# Altium footprint library XBeeLight.PcbLib: 42 footprints (part 2 of 3)
Each footprint in its own frame and in the unit in brackets; x right, y up, seen from the top. Pads: shape width x height; smd on the part's side, far side on the other; paste and mask are expansions set on the pad; w line width, h text height; cw(c..) or ccw(c..) is an arc to the next point about the centre after c.
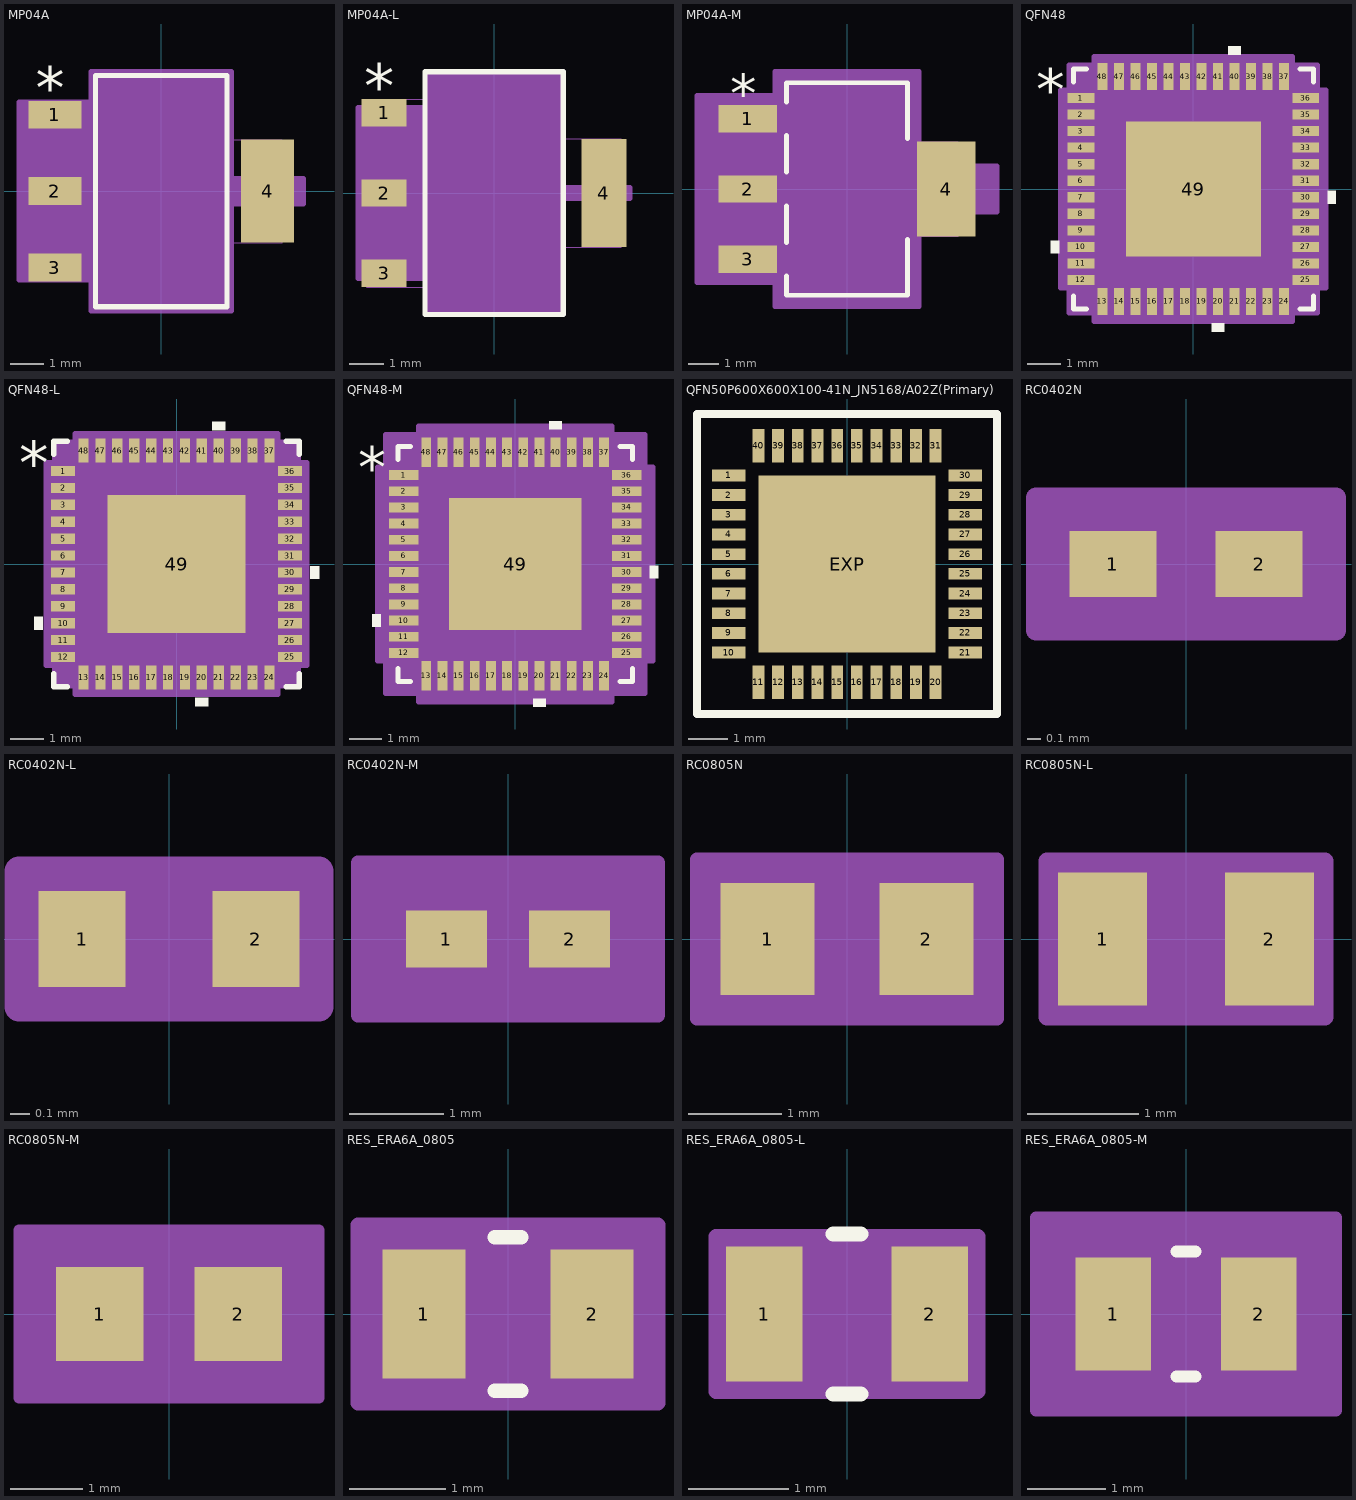
[diagram p1: the footprints below, top view; thin cyan lines are the x and y axes]

## MP04A [mil]
pads (4):
  rect 63x33 smd paste+0 mask+0: 1(-126,90.55) 2(-126,0) 3(-126,-90.55)
  rect 63x122 smd paste+0 mask+0: 4(126,0)
Top Overlay:
  lines w6: -78,-137 78,-137 78,137 -78,137 -78,-137
  text "*" at -148.5,97.05 h50
Mechanical 13:
  lines w1: -143.5,-106.05 -143.5,-75.05 -73,-75.05 -73,-106.05 -143.5,-106.05 ; -143.5,-15.5 -143.5,15.5 -73,15.5 -73,-15.5 -143.5,-15.5 ; -143.5,75.05 -143.5,106.05 -73,106.05 -73,75.05 -143.5,75.05 ; -73,-132 73,-132 73,132 -73,132 -73,-132 ; 73,-61 73,61 143.5,61 143.5,-61 73,-61
  text "*" at -75.5,77.05 h50
Mechanical 15:
  region: 83,-142 -83,-142 -83,-105.55 -168.5,-105.55 -168.5,105.55 -83,105.55 -83,142 83,142 83,15 168.5,15 168.5,-15 83,-15
  lines w6: -168.5,-105.55 -83,-105.55 -83,-142 83,-142 83,-15 168.5,-15 168.5,15 83,15 83,142 -83,142 -83,105.55 -168.5,105.55 -168.5,-105.55
3D body: height 10, standoff 0, extent 0,0 10,10

## MP04A-L [mil]
pads (4):
  rect 51x31 smd paste+0 mask+0: 1(-124,90.55) 2(-124,0) 3(-124,-90.55)
  rect 51x122 smd paste+0 mask+0: 4(124,0)
Top Overlay:
  lines w6: -78,-137 78,-137 78,137 -78,137 -78,-137
  text "*" at -146.5,96.05 h50
Mechanical 13:
  lines w1: -143.5,-106.05 -143.5,-75.05 -73,-75.05 -73,-106.05 -143.5,-106.05 ; -143.5,-15.5 -143.5,15.5 -73,15.5 -73,-15.5 -143.5,-15.5 ; -143.5,75.05 -143.5,106.05 -73,106.05 -73,75.05 -143.5,75.05 ; -73,-132 73,-132 73,132 -73,132 -73,-132 ; 73,-61 73,61 143.5,61 143.5,-61 73,-61
  text "*" at -75.5,76.05 h50
Mechanical 15:
  region: 77,-136 -77,-136 -77,-96.55 -153.5,-96.55 -153.5,96.55 -77,96.55 -77,136 77,136 77,6 153.5,6 153.5,-6 77,-6
  lines w6: -153.5,-96.55 -77,-96.55 -77,-136 77,-136 77,-6 153.5,-6 153.5,6 77,6 77,136 -77,136 -77,96.55 -153.5,96.55 -153.5,-96.55
3D body: height 10, standoff 0, extent 0,0 10,10

## MP04A-M [mil]
pads (4):
  rect 75x35 smd paste+0 mask+0: 1(-128,90.55) 2(-128,0) 3(-128,-90.55)
  rect 75x122 smd paste+0 mask+0: 4(128,0)
Top Overlay:
  lines w6: -78,-111.97 -78,-137 78,-137 78,-64.92 ; -78,-69.13 -78,-21.42 ; -78,21.42 -78,69.13 ; -78,111.97 -78,137 78,137 78,64.92
  text "*" at -150.5,98.05 h50
Mechanical 13:
  lines w1: -143.5,-106.05 -143.5,-75.05 -73,-75.05 -73,-106.05 -143.5,-106.05 ; -143.5,-15.5 -143.5,15.5 -73,15.5 -73,-15.5 -143.5,-15.5 ; -143.5,75.05 -143.5,106.05 -73,106.05 -73,75.05 -143.5,75.05 ; -73,-132 73,-132 73,132 -73,132 -73,-132 ; 73,-61 73,61 143.5,61 143.5,-61 73,-61
  text "*" at -75.5,78.05 h50
Mechanical 15:
  region: 93,-152 -93,-152 -93,-120.55 -193.5,-120.55 -193.5,120.55 -93,120.55 -93,152 93,152 93,30 193.5,30 193.5,-30 93,-30
  lines w6: -193.5,-120.55 -93,-120.55 -93,-152 93,-152 93,-30 193.5,-30 193.5,30 93,30 93,152 -93,152 -93,120.55 -193.5,120.55 -193.5,-120.55
3D body: height 10, standoff 0, extent 0,0 10,10

## QFN48 [mil]
pads (49):
  rect 32x12 smd paste+0 mask+0: 1(-134,108.27) 2(-134,88.58) 3(-134,68.9) 4(-134,49.21) 5(-134,29.53) 6(-134,9.84) 7(-134,-9.84) 8(-134,-29.53) 9(-134,-49.21) 10(-134,-68.9) 11(-134,-88.58) 12(-134,-108.27) 25(134,-108.27) 26(134,-88.58) 27(134,-68.9) 28(134,-49.21) 29(134,-29.53) 30(134,-9.84) 31(134,9.84) 32(134,29.53) 33(134,49.21) 34(134,68.9) 35(134,88.58) 36(134,108.27)
  rect 12x32 smd paste+0 mask+0: 13(-108.27,-134) 14(-88.58,-134) 15(-68.9,-134) 16(-49.21,-134) 17(-29.53,-134) 18(-9.84,-134) 19(9.84,-134) 20(29.53,-134) 21(49.21,-134) 22(68.9,-134) 23(88.58,-134) 24(108.27,-134) 37(108.27,134) 38(88.58,134) 39(68.9,134) 40(49.21,134) 41(29.53,134) 42(9.84,134) 43(-9.84,134) 44(-29.53,134) 45(-49.21,134) 46(-68.9,134) 47(-88.58,134) 48(-108.27,134)
  rect 161x161 smd paste-80 mask+0: 49(0,0)
Top Overlay:
  region: -160,-61.4 -170,-61.4 -170,-76.4 -160,-76.4
  region: 37.03,-160 22.03,-160 22.03,-170 37.03,-170
  region: 160,-2.34 170,-2.34 170,-17.34 160,-17.34
  region: 56.71,160 41.71,160 41.71,170 56.71,170
  lines w6: -143,-127.37 -143,-143 -127.37,-143 ; -143,127.37 -143,143 -127.37,143 ; 127.37,-143 143,-143 143,-127.37 ; 127.37,143 143,143 143,127.37
  text "*" at -187.5,93.11 h50
Top Paste:
  region: -30.77,76.56 -76.56,76.56 -76.56,30.77 -30.77,30.77
  region: -30.77,22.9 -76.56,22.9 -76.56,-22.9 -30.77,-22.9
  region: -30.77,-30.77 -76.56,-30.77 -76.56,-76.56 -30.77,-76.56
  region: 22.9,76.56 -22.9,76.56 -22.9,30.77 22.9,30.77
  region: 22.9,22.9 -22.9,22.9 -22.9,-22.9 22.9,-22.9
  region: 22.9,-30.77 -22.9,-30.77 -22.9,-76.56 22.9,-76.56
  region: 76.56,76.56 30.77,76.56 30.77,30.77 76.56,30.77
  region: 76.56,22.9 30.77,22.9 30.77,-22.9 76.56,-22.9
  region: 76.56,-30.77 30.77,-30.77 30.77,-76.56 76.56,-76.56
Mechanical 13:
  lines w1: -138,88 -88,138 ; -138,-138 138,-138 138,138 -138,138 -138,-138 ; -138,-114.27 -138,-102.27 -138,-114.27 ; -138,-94.58 -138,-82.58 -138,-94.58 ; -138,-74.9 -138,-62.9 -138,-74.9 ; -138,-55.21 -138,-43.21 -138,-55.21 ; -138,-35.53 -138,-23.53 -138,-35.53 ; -138,-15.84 -138,-3.84 -138,-15.84 ; -138,3.84 -138,15.84 -138,3.84 ; -138,23.53 -138,35.53 -138,23.53 ; -138,43.21 -138,55.21 -138,43.21 ; -138,62.9 -138,74.9 -138,62.9 ; -138,82.58 -138,94.58 -138,82.58 ; -138,102.27 -138,114.27 -138,102.27 ; -114.27,-138 -102.27,-138 -114.27,-138 ; -114.27,138 -102.27,138 -114.27,138 ; -94.58,-138 -82.58,-138 -94.58,-138 ; -94.58,138 -82.58,138 -94.58,138 ; -74.9,-138 -62.9,-138 -74.9,-138 ; -74.9,138 -62.9,138 -74.9,138 ; -55.21,-138 -43.21,-138 -55.21,-138 ; -55.21,138 -43.21,138 -55.21,138 ; -35.53,-138 -23.53,-138 -35.53,-138 ; -35.53,138 -23.53,138 -35.53,138 ; -15.84,-138 -3.84,-138 -15.84,-138 ; -15.84,138 -3.84,138 -15.84,138 ; 3.84,-138 15.84,-138 3.84,-138 ; 3.84,138 15.84,138 3.84,138 ; 23.53,-138 35.53,-138 23.53,-138 ; 23.53,138 35.53,138 23.53,138 ; 43.21,-138 55.21,-138 43.21,-138 ; 43.21,138 55.21,138 43.21,138 ; 62.9,-138 74.9,-138 62.9,-138 ; 62.9,138 74.9,138 62.9,138 ; 82.58,-138 94.58,-138 82.58,-138 ; 82.58,138 94.58,138 82.58,138 ; 102.27,-138 114.27,-138 102.27,-138 ; 102.27,138 114.27,138 102.27,138 ; 138,-114.27 138,-102.27 138,-114.27 ; 138,-94.58 138,-82.58 138,-94.58 ; 138,-74.9 138,-62.9 138,-74.9 ; 138,-55.21 138,-43.21 138,-55.21 ; 138,-35.53 138,-23.53 138,-35.53 ; 138,-15.84 138,-3.84 138,-15.84 ; 138,3.84 138,15.84 138,3.84 ; 138,23.53 138,35.53 138,23.53 ; 138,43.21 138,55.21 138,43.21 ; 138,62.9 138,74.9 138,62.9 ; 138,82.58 138,94.58 138,82.58 ; 138,102.27 138,114.27 138,102.27
  text "*" at -130.5,93.11 h50
Mechanical 15:
  region: -118.11,-148 -148,-148 -148,-118.11 -158,-118.11 -158,118.11 -148,118.11 -148,148 -118.11,148 -118.11,158 118.11,158 118.11,148 148,148 148,118.11 158,118.11 158,-118.11 148,-118.11 148,-148 118.11,-148 118.11,-158 -118.11,-158
  lines w6: -158,-118.11 -148,-118.11 -148,-148 -118.11,-148 -118.11,-158 118.11,-158 118.11,-148 148,-148 148,-118.11 158,-118.11 158,118.11 148,118.11 148,148 118.11,148 118.11,158 -118.11,158 -118.11,148 -148,148 -148,118.11 -158,118.11 -158,-118.11
3D body: height 10, standoff 0, extent 0,0 10,10

## QFN48-L [mil]
pads (49):
  rect 28x12 smd paste+0 mask+0: 1(-132,108.27) 2(-132,88.58) 3(-132,68.9) 4(-132,49.21) 5(-132,29.53) 6(-132,9.84) 7(-132,-9.84) 8(-132,-29.53) 9(-132,-49.21) 10(-132,-68.9) 11(-132,-88.58) 12(-132,-108.27) 25(132,-108.27) 26(132,-88.58) 27(132,-68.9) 28(132,-49.21) 29(132,-29.53) 30(132,-9.84) 31(132,9.84) 32(132,29.53) 33(132,49.21) 34(132,68.9) 35(132,88.58) 36(132,108.27)
  rect 12x28 smd paste+0 mask+0: 13(-108.27,-132) 14(-88.58,-132) 15(-68.9,-132) 16(-49.21,-132) 17(-29.53,-132) 18(-9.84,-132) 19(9.84,-132) 20(29.53,-132) 21(49.21,-132) 22(68.9,-132) 23(88.58,-132) 24(108.27,-132) 37(108.27,132) 38(88.58,132) 39(68.9,132) 40(49.21,132) 41(29.53,132) 42(9.84,132) 43(-9.84,132) 44(-29.53,132) 45(-49.21,132) 46(-68.9,132) 47(-88.58,132) 48(-108.27,132)
  rect 161x161 smd paste-80 mask+0: 49(0,0)
Top Overlay:
  region: 56.71,156 41.71,156 41.71,166 56.71,166
  region: 156,-2.34 166,-2.34 166,-17.34 156,-17.34
  region: 37.03,-156 22.03,-156 22.03,-166 37.03,-166
  region: -156,-61.4 -166,-61.4 -166,-76.4 -156,-76.4
  lines w6: -143,-127.37 -143,-143 -127.37,-143 ; -143,127.37 -143,143 -127.37,143 ; 127.37,-143 143,-143 143,-127.37 ; 127.37,143 143,143 143,127.37
  text "*" at -183.5,93.11 h50
Top Paste:
  region: 76.56,-30.77 30.77,-30.77 30.77,-76.56 76.56,-76.56
  region: 76.56,22.9 30.77,22.9 30.77,-22.9 76.56,-22.9
  region: 76.56,76.56 30.77,76.56 30.77,30.77 76.56,30.77
  region: 22.9,-30.77 -22.9,-30.77 -22.9,-76.56 22.9,-76.56
  region: 22.9,22.9 -22.9,22.9 -22.9,-22.9 22.9,-22.9
  region: 22.9,76.56 -22.9,76.56 -22.9,30.77 22.9,30.77
  region: -30.77,-30.77 -76.56,-30.77 -76.56,-76.56 -30.77,-76.56
  region: -30.77,22.9 -76.56,22.9 -76.56,-22.9 -30.77,-22.9
  region: -30.77,76.56 -76.56,76.56 -76.56,30.77 -30.77,30.77
Mechanical 13:
  lines w1: -138,88 -88,138 ; -138,-138 -138,138 138,138 138,-138 -138,-138 ; -138,-114.27 -138,-102.27 -138,-114.27 ; -138,-94.58 -138,-82.58 -138,-94.58 ; -138,-74.9 -138,-62.9 -138,-74.9 ; -138,-55.21 -138,-43.21 -138,-55.21 ; -138,-35.53 -138,-23.53 -138,-35.53 ; -138,-15.84 -138,-3.84 -138,-15.84 ; -138,3.84 -138,15.84 -138,3.84 ; -138,23.53 -138,35.53 -138,23.53 ; -138,43.21 -138,55.21 -138,43.21 ; -138,62.9 -138,74.9 -138,62.9 ; -138,82.58 -138,94.58 -138,82.58 ; -138,102.27 -138,114.27 -138,102.27 ; -114.27,-138 -102.27,-138 -114.27,-138 ; -114.27,138 -102.27,138 -114.27,138 ; -94.58,-138 -82.58,-138 -94.58,-138 ; -94.58,138 -82.58,138 -94.58,138 ; -74.9,-138 -62.9,-138 -74.9,-138 ; -74.9,138 -62.9,138 -74.9,138 ; -55.21,-138 -43.21,-138 -55.21,-138 ; -55.21,138 -43.21,138 -55.21,138 ; -35.53,-138 -23.53,-138 -35.53,-138 ; -35.53,138 -23.53,138 -35.53,138 ; -15.84,-138 -3.84,-138 -15.84,-138 ; -15.84,138 -3.84,138 -15.84,138 ; 3.84,-138 15.84,-138 3.84,-138 ; 3.84,138 15.84,138 3.84,138 ; 23.53,-138 35.53,-138 23.53,-138 ; 23.53,138 35.53,138 23.53,138 ; 43.21,-138 55.21,-138 43.21,-138 ; 43.21,138 55.21,138 43.21,138 ; 62.9,-138 74.9,-138 62.9,-138 ; 62.9,138 74.9,138 62.9,138 ; 82.58,-138 94.58,-138 82.58,-138 ; 82.58,138 94.58,138 82.58,138 ; 102.27,-138 114.27,-138 102.27,-138 ; 102.27,138 114.27,138 102.27,138 ; 138,-114.27 138,-102.27 138,-114.27 ; 138,-94.58 138,-82.58 138,-94.58 ; 138,-74.9 138,-62.9 138,-74.9 ; 138,-55.21 138,-43.21 138,-55.21 ; 138,-35.53 138,-23.53 138,-35.53 ; 138,-15.84 138,-3.84 138,-15.84 ; 138,3.84 138,15.84 138,3.84 ; 138,23.53 138,35.53 138,23.53 ; 138,43.21 138,55.21 138,43.21 ; 138,62.9 138,74.9 138,62.9 ; 138,82.58 138,94.58 138,82.58 ; 138,102.27 138,114.27 138,102.27
  text "*" at -130.5,93.11 h50
Mechanical 15:
  region: -118.11,-142 -142,-142 -142,-118.11 -152,-118.11 -152,118.11 -142,118.11 -142,142 -118.11,142 -118.11,152 118.11,152 118.11,142 142,142 142,118.11 152,118.11 152,-118.11 142,-118.11 142,-142 118.11,-142 118.11,-152 -118.11,-152
  lines w6: -152,-118.11 -152,118.11 -142,118.11 -142,142 -118.11,142 -118.11,152 118.11,152 118.11,142 142,142 142,118.11 152,118.11 152,-118.11 142,-118.11 142,-142 118.11,-142 118.11,-152 -118.11,-152 -118.11,-142 -142,-142 -142,-118.11 -152,-118.11
3D body: height 10, standoff 0, extent 0,0 10,10

## QFN48-M [mil]
pads (49):
  rect 36x12 smd paste+0 mask+0: 1(-136,108.27) 2(-136,88.58) 3(-136,68.9) 4(-136,49.21) 5(-136,29.53) 6(-136,9.84) 7(-136,-9.84) 8(-136,-29.53) 9(-136,-49.21) 10(-136,-68.9) 11(-136,-88.58) 12(-136,-108.27) 25(136,-108.27) 26(136,-88.58) 27(136,-68.9) 28(136,-49.21) 29(136,-29.53) 30(136,-9.84) 31(136,9.84) 32(136,29.53) 33(136,49.21) 34(136,68.9) 35(136,88.58) 36(136,108.27)
  rect 12x36 smd paste+0 mask+0: 13(-108.27,-136) 14(-88.58,-136) 15(-68.9,-136) 16(-49.21,-136) 17(-29.53,-136) 18(-9.84,-136) 19(9.84,-136) 20(29.53,-136) 21(49.21,-136) 22(68.9,-136) 23(88.58,-136) 24(108.27,-136) 37(108.27,136) 38(88.58,136) 39(68.9,136) 40(49.21,136) 41(29.53,136) 42(9.84,136) 43(-9.84,136) 44(-29.53,136) 45(-49.21,136) 46(-68.9,136) 47(-88.58,136) 48(-108.27,136)
  rect 161x161 smd paste-80 mask+0: 49(0,0)
Top Overlay:
  region: 56.71,164 41.71,164 41.71,174 56.71,174
  region: 164,-2.34 174,-2.34 174,-17.34 164,-17.34
  region: 37.03,-164 22.03,-164 22.03,-174 37.03,-174
  region: -164,-61.4 -174,-61.4 -174,-76.4 -164,-76.4
  lines w6: -143,-127.37 -143,-143 -127.37,-143 ; -143,127.37 -143,143 -127.37,143 ; 127.37,-143 143,-143 143,-127.37 ; 127.37,143 143,143 143,127.37
  text "*" at -191.5,93.11 h50
Top Paste:
  region: 76.56,-30.77 30.77,-30.77 30.77,-76.56 76.56,-76.56
  region: 76.56,22.9 30.77,22.9 30.77,-22.9 76.56,-22.9
  region: 76.56,76.56 30.77,76.56 30.77,30.77 76.56,30.77
  region: 22.9,-30.77 -22.9,-30.77 -22.9,-76.56 22.9,-76.56
  region: 22.9,22.9 -22.9,22.9 -22.9,-22.9 22.9,-22.9
  region: 22.9,76.56 -22.9,76.56 -22.9,30.77 22.9,30.77
  region: -30.77,-30.77 -76.56,-30.77 -76.56,-76.56 -30.77,-76.56
  region: -30.77,22.9 -76.56,22.9 -76.56,-22.9 -30.77,-22.9
  region: -30.77,76.56 -76.56,76.56 -76.56,30.77 -30.77,30.77
Mechanical 13:
  lines w1: -138,88 -88,138 ; -138,-138 -138,138 138,138 138,-138 -138,-138 ; -138,-114.27 -138,-102.27 -138,-114.27 ; -138,-94.58 -138,-82.58 -138,-94.58 ; -138,-74.9 -138,-62.9 -138,-74.9 ; -138,-55.21 -138,-43.21 -138,-55.21 ; -138,-35.53 -138,-23.53 -138,-35.53 ; -138,-15.84 -138,-3.84 -138,-15.84 ; -138,3.84 -138,15.84 -138,3.84 ; -138,23.53 -138,35.53 -138,23.53 ; -138,43.21 -138,55.21 -138,43.21 ; -138,62.9 -138,74.9 -138,62.9 ; -138,82.58 -138,94.58 -138,82.58 ; -138,102.27 -138,114.27 -138,102.27 ; -114.27,-138 -102.27,-138 -114.27,-138 ; -114.27,138 -102.27,138 -114.27,138 ; -94.58,-138 -82.58,-138 -94.58,-138 ; -94.58,138 -82.58,138 -94.58,138 ; -74.9,-138 -62.9,-138 -74.9,-138 ; -74.9,138 -62.9,138 -74.9,138 ; -55.21,-138 -43.21,-138 -55.21,-138 ; -55.21,138 -43.21,138 -55.21,138 ; -35.53,-138 -23.53,-138 -35.53,-138 ; -35.53,138 -23.53,138 -35.53,138 ; -15.84,-138 -3.84,-138 -15.84,-138 ; -15.84,138 -3.84,138 -15.84,138 ; 3.84,-138 15.84,-138 3.84,-138 ; 3.84,138 15.84,138 3.84,138 ; 23.53,-138 35.53,-138 23.53,-138 ; 23.53,138 35.53,138 23.53,138 ; 43.21,-138 55.21,-138 43.21,-138 ; 43.21,138 55.21,138 43.21,138 ; 62.9,-138 74.9,-138 62.9,-138 ; 62.9,138 74.9,138 62.9,138 ; 82.58,-138 94.58,-138 82.58,-138 ; 82.58,138 94.58,138 82.58,138 ; 102.27,-138 114.27,-138 102.27,-138 ; 102.27,138 114.27,138 102.27,138 ; 138,-114.27 138,-102.27 138,-114.27 ; 138,-94.58 138,-82.58 138,-94.58 ; 138,-74.9 138,-62.9 138,-74.9 ; 138,-55.21 138,-43.21 138,-55.21 ; 138,-35.53 138,-23.53 138,-35.53 ; 138,-15.84 138,-3.84 138,-15.84 ; 138,3.84 138,15.84 138,3.84 ; 138,23.53 138,35.53 138,23.53 ; 138,43.21 138,55.21 138,43.21 ; 138,62.9 138,74.9 138,62.9 ; 138,82.58 138,94.58 138,82.58 ; 138,102.27 138,114.27 138,102.27
  text "*" at -130.5,93.11 h50
Mechanical 15:
  region: -118.11,-158 -158,-158 -158,-118.11 -168,-118.11 -168,118.11 -158,118.11 -158,158 -118.11,158 -118.11,168 118.11,168 118.11,158 158,158 158,118.11 168,118.11 168,-118.11 158,-118.11 158,-158 118.11,-158 118.11,-168 -118.11,-168
  lines w6: -168,-118.11 -168,118.11 -158,118.11 -158,158 -118.11,158 -118.11,168 118.11,168 118.11,158 158,158 158,118.11 168,118.11 168,-118.11 158,-118.11 158,-158 118.11,-158 118.11,-168 -118.11,-168 -118.11,-158 -158,-158 -158,-118.11 -168,-118.11
3D body: height 10, standoff 0, extent 0,0 10,10

## QFN50P600X600X100-41N_JN5168/A02Z(Primary) [mm]
pads (41):
  rect 0.85x0.3 smd: 1(-3,2.25) 2(-3,1.75) 3(-3,1.25) 4(-3,0.75) 5(-3,0.25) 6(-3,-0.25) 7(-3,-0.75) 8(-3,-1.25) 9(-3,-1.75) 10(-3,-2.25) 21(3,-2.25) 22(3,-1.75) 23(3,-1.25) 24(3,-0.75) 25(3,-0.25) 26(3,0.25) 27(3,0.75) 28(3,1.25) 29(3,1.75) 30(3,2.25)
  rect 0.3x0.85 smd: 11(-2.25,-3) 12(-1.75,-3) 13(-1.25,-3) 14(-0.75,-3) 15(-0.25,-3) 16(0.25,-3) 17(0.75,-3) 18(1.25,-3) 19(1.75,-3) 20(2.25,-3) 31(2.25,3) 32(1.75,3) 33(1.25,3) 34(0.75,3) 35(0.25,3) 36(-0.25,3) 37(-0.75,3) 38(-1.25,3) 39(-1.75,3) 40(-2.25,3)
  rect 4.5x4.5 smd: EXP(0,0)
Top Overlay:
  lines w0.203: -3.81,-3.81 3.81,-3.81 3.81,3.81 -3.81,3.81 -3.81,-3.81
Top Paste:
  drawing of 89 lines, arcs and shapes, not listed
Top Solder:
  drawing of 41 lines, arcs and shapes, not listed
Mechanical 4:
  drawing of 80 lines, arcs and shapes, not listed

## RC0402N [mm]
pads (2):
  rect 0.656x0.5 smd paste+0 mask+0: 1(-0.553,0) 2(0.553,0)
Mechanical 13:
  lines w0.025: -0.525,-0.25 -0.525,0.25 ; -0.525,-0.25 0.525,-0.25 ; -0.525,-0.25 -0.225,-0.25 -0.225,0.25 -0.525,0.25 ; -0.525,-0.25 -0.525,0.25 ; -0.525,0.25 0.525,0.25 ; 0.525,-0.25 0.525,0.25 ; 0.525,-0.25 0.525,0.25 ; 0.525,-0.25 0.225,-0.25 0.225,0.25 0.525,0.25
Mechanical 15:
  region: 1.135,-0.504 -1.135,-0.504 -1.135,0.504 1.135,0.504
  lines w0.152: -1.135,-0.504 1.135,-0.504 1.135,0.504 -1.135,0.504 -1.135,-0.504
3D body: height 0.25, standoff 0, extent 0,0 0.254,0.254

## RC0402N-L [mm]
pads (2):
  rect 0.452x0.5 smd paste+0 mask+0: 1(-0.451,0) 2(0.451,0)
Mechanical 13:
  lines w0.025: -0.525,-0.25 -0.525,0.25 ; -0.525,-0.25 -0.225,-0.25 -0.225,0.25 -0.525,0.25 ; -0.525,-0.25 0.525,-0.25 ; -0.525,-0.25 -0.525,0.25 ; -0.525,0.25 0.525,0.25 ; 0.525,-0.25 0.225,-0.25 0.225,0.25 0.525,0.25 ; 0.525,-0.25 0.525,0.25 ; 0.525,-0.25 0.525,0.25
Mechanical 15:
  region: 0.779,-0.352 -0.779,-0.352 -0.779,0.352 0.779,0.352
  lines w0.152: -0.779,-0.352 -0.779,0.352 0.779,0.352 0.779,-0.352 -0.779,-0.352
3D body: height 0.25, standoff 0, extent 0,0 0.254,0.254

## RC0402N-M [mil]
pads (2):
  rect 33.81x23.68 smd paste+0 mask+0: 1(-25.76,0) 2(25.76,0)
Mechanical 13:
  lines w1: -20.67,-9.84 -20.67,9.84 ; -20.67,-9.84 20.67,-9.84 ; -20.67,-9.84 -8.86,-9.84 -8.86,9.84 -20.67,9.84 ; -20.67,-9.84 -20.67,9.84 ; -20.67,9.84 20.67,9.84 ; 20.67,-9.84 20.67,9.84 ; 20.67,-9.84 20.67,9.84 ; 20.67,-9.84 8.86,-9.84 8.86,9.84 20.67,9.84
Mechanical 15:
  region: 62.67,-31.84 -62.67,-31.84 -62.67,31.84 62.67,31.84
  lines w6: -62.67,-31.84 62.67,-31.84 62.67,31.84 -62.67,31.84 -62.67,-31.84
3D body: height 10, standoff 0, extent 0,0 10,10

## RC0805N [mm]
pads (2):
  rect 1.006x1.2 smd paste+0 mask+0: 1(-0.853,0) 2(0.853,0)
Mechanical 13:
  lines w0.025: -1,-0.6 -1,0.6 ; -1,-0.6 -0.35,-0.6 -0.35,0.6 -1,0.6 ; -1,-0.6 1,-0.6 ; -1,-0.6 -1,0.6 ; -1,0.6 1,0.6 ; 1,-0.6 0.35,-0.6 0.35,0.6 1,0.6 ; 1,-0.6 1,0.6 ; 1,-0.6 1,0.6
Mechanical 15:
  region: 1.61,-0.854 -1.61,-0.854 -1.61,0.854 1.61,0.854
  lines w0.152: -1.61,-0.854 -1.61,0.854 1.61,0.854 1.61,-0.854 -1.61,-0.854
3D body: height 0.25, standoff 0, extent 0,0 0.254,0.254

## RC0805N-L [mm]
pads (2):
  rect 0.802x1.2 smd paste+0 mask+0: 1(-0.751,0) 2(0.751,0)
Mechanical 13:
  lines w0.025: -1,-0.6 -1,0.6 ; -1,-0.6 -0.35,-0.6 -0.35,0.6 -1,0.6 ; -1,-0.6 1,-0.6 ; -1,-0.6 -1,0.6 ; -1,0.6 1,0.6 ; 1,-0.6 0.35,-0.6 0.35,0.6 1,0.6 ; 1,-0.6 1,0.6 ; 1,-0.6 1,0.6
Mechanical 15:
  region: 1.254,-0.702 -1.254,-0.702 -1.254,0.702 1.254,0.702
  lines w0.152: -1.254,-0.702 -1.254,0.702 1.254,0.702 1.254,-0.702 -1.254,-0.702
3D body: height 0.25, standoff 0, extent 0,0 0.254,0.254

## RC0805N-M [mil]
pads (2):
  rect 47.59x51.24 smd paste+0 mask+0: 1(-37.57,0) 2(37.57,0)
Mechanical 13:
  lines w1: -39.37,-23.62 -39.37,23.62 ; -39.37,-23.62 39.37,-23.62 ; -39.37,-23.62 -13.78,-23.62 -13.78,23.62 -39.37,23.62 ; -39.37,-23.62 -39.37,23.62 ; -39.37,23.62 39.37,23.62 ; 39.37,-23.62 39.37,23.62 ; 39.37,-23.62 39.37,23.62 ; 39.37,-23.62 13.78,-23.62 13.78,23.62 39.37,23.62
Mechanical 15:
  region: 81.37,-45.62 -81.37,-45.62 -81.37,45.62 81.37,45.62
  lines w6: -81.37,-45.62 81.37,-45.62 81.37,45.62 -81.37,45.62 -81.37,-45.62
3D body: height 10, standoff 0, extent 0,0 10,10

## RES_ERA6A_0805 [mil]
pads (2):
  rect 34x53 smd paste+0 mask+0: 1(-34.5,0) 2(34.5,0)
Top Overlay:
  lines w6: -5.39,-31.5 5.39,-31.5 ; -5.39,31.5 5.39,31.5
Mechanical 13:
  lines w1: -43.5,-26.5 -43.5,26.5 ; -43.5,-26.5 -17.5,-26.5 -17.5,26.5 -43.5,26.5 ; -43.5,-26.5 43.5,-26.5 ; -43.5,-26.5 -43.5,26.5 ; -43.5,26.5 43.5,26.5 ; 43.5,-26.5 17.5,-26.5 17.5,26.5 43.5,26.5 ; 43.5,-26.5 43.5,26.5 ; 43.5,-26.5 43.5,26.5
Mechanical 15:
  region: 61.5,-36.5 -61.5,-36.5 -61.5,36.5 61.5,36.5
  lines w6: -61.5,-36.5 -61.5,36.5 61.5,36.5 61.5,-36.5 -61.5,-36.5
3D body: height 10, standoff 0, extent 0,0 10,10

## RES_ERA6A_0805-L [mil]
pads (2):
  rect 30x53 smd paste+0 mask+0: 1(-32.5,0) 2(32.5,0)
Top Overlay:
  lines w6: -5.39,-31.5 5.39,-31.5 ; -5.39,31.5 5.39,31.5
Mechanical 13:
  lines w1: -43.5,-26.5 -43.5,26.5 ; -43.5,-26.5 -17.5,-26.5 -17.5,26.5 -43.5,26.5 ; -43.5,-26.5 43.5,-26.5 ; -43.5,-26.5 -43.5,26.5 ; -43.5,26.5 43.5,26.5 ; 43.5,-26.5 17.5,-26.5 17.5,26.5 43.5,26.5 ; 43.5,-26.5 43.5,26.5 ; 43.5,-26.5 43.5,26.5
Mechanical 15:
  region: 51.5,-30.5 -51.5,-30.5 -51.5,30.5 51.5,30.5
  lines w6: -51.5,-30.5 -51.5,30.5 51.5,30.5 51.5,-30.5 -51.5,-30.5
3D body: height 10, standoff 0, extent 0,0 10,10

## RES_ERA6A_0805-M [mil]
pads (2):
  rect 38x57 smd paste+0 mask+0: 1(-36.5,0) 2(36.5,0)
Top Overlay:
  lines w6: -4.75,-31.5 4.75,-31.5 ; -4.75,31.5 4.75,31.5
Mechanical 13:
  lines w1: -43.5,-26.5 -43.5,26.5 ; -43.5,-26.5 -17.5,-26.5 -17.5,26.5 -43.5,26.5 ; -43.5,-26.5 43.5,-26.5 ; -43.5,-26.5 -43.5,26.5 ; -43.5,26.5 43.5,26.5 ; 43.5,-26.5 17.5,-26.5 17.5,26.5 43.5,26.5 ; 43.5,-26.5 43.5,26.5 ; 43.5,-26.5 43.5,26.5
Mechanical 15:
  region: 75.5,-48.5 -75.5,-48.5 -75.5,48.5 75.5,48.5
  lines w6: -75.5,-48.5 -75.5,48.5 75.5,48.5 75.5,-48.5 -75.5,-48.5
3D body: height 10, standoff 0, extent 0,0 10,10